# Altium footprint library L19.PcbLib: 3 footprints
Each footprint in its own frame and in the unit in brackets; x right, y up, seen from the top. Pads: shape width x height; smd on the part's side, far side on the other; paste and mask are expansions set on the pad; w line width, h text height; cw(c..) or ccw(c..) is an arc to the next point about the centre after c.
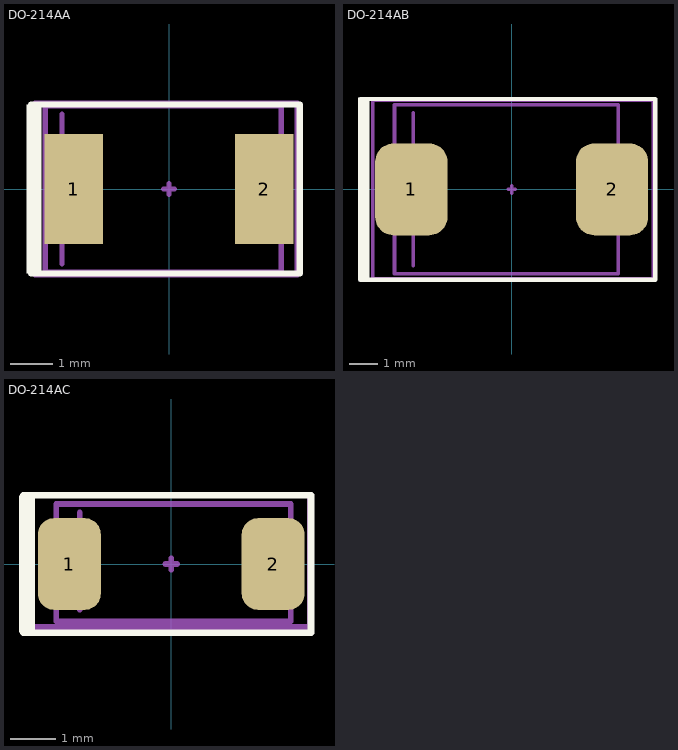
[diagram p0: the footprints below, top view; thin cyan lines are the x and y axes]

## DO-214AA [mil] "DO-214AA;SMB"
pads (2):
  rect 55x102.36 smd: 1(-89,0) 2(89,0)
Top Overlay:
  region: -119,79 -133,79 -133,-79 -119,-79
  lines w6: -129,-79 122,-79 122,79 -129,79
Mechanical 13:
  lines w5: -100,-70 -100,70 ; -115.73,77.75 -115.73,77.75 ; -115.73,77.75 -115.73,-77.76 104.74,-77.76 104.74,77.75 -115.73,77.75
Mechanical 15:
  lines w5: -5,0 5,0 ; 0,-5 0,5 ; -125,-80 -125,80 120,80 120,-80 -125,-80
Mechanical 17:
  text "'.Designator'" at -80,-5 h15
3D body "DO-214AA.STEP": height 103.15, standoff 0, extent -115.73,-77.76 104.74,77.75

## DO-214AB [mm] "DO-214AB;SMC"
pads (2):
  rrect50% 2.52x3.2 smd: 1(-3.5,0) 2(3.5,0)
Top Overlay:
  region: -4.953,3.2 -5.359,3.2 -5.359,-3.175 -4.953,-3.175
  lines w0.152: -5.283,-3.15 -3.581,-3.15 ; -5.283,3.15 -3.581,3.15 ; -3.6,-3.15 3.6,-3.15 ; -3.6,3.15 3.6,3.15 ; 3.581,3.15 5.004,3.15 5.004,-0.711 5.004,-3.15 3.607,-3.15
Mechanical 2:
  lines w0.127: -3.429,-2.667 -3.429,2.667 ; -4.086,-2.946 -4.086,2.954 3.714,2.954 3.714,-2.946 -4.086,-2.946
Mechanical 4:
  lines w0.127: -0.127,0 0.127,0 ; 0,-0.127 0,0.127 ; -4.845,-3.121 -4.845,3.102 4.934,3.102 4.934,-3.121 -4.845,-3.121
3D body "User Library-DO-214AB-SMC.step": height 2.4, standoff -0.05, extent -4.086,-2.946 3.714,2.954

## DO-214AC [mil] "DO-214A;SMA"
pads (2):
  rrect50% 55x80 smd: 1(-89,0) 2(89,0)
Top Overlay:
  region: -119,60 -133,60 -133,-60 -119,-60
  lines w6: -129,-60 122,-60 122,60 -129,60
Mechanical 2:
  lines w5: -80,-40 -80,45 ; -100.36,-50 104.36,-50 104.36,52.36 -100.36,52.36 -100.36,-50
Mechanical 4:
  lines w5: -5,0 5,0 ; 0,-5 0,5 ; -124,-55 121,-55 121,60 -124,60 -124,-55
3D body "SW3dPS-DO-214AC SMA.STEP": height 95.19, standoff 0.6, extent -100.36,-50 104.36,52.37